# Altium integrated library nrf24l01-breakout.IntLib: 2 symbols
Pins are listed as number, name and electrical type; pins without a type are passive.

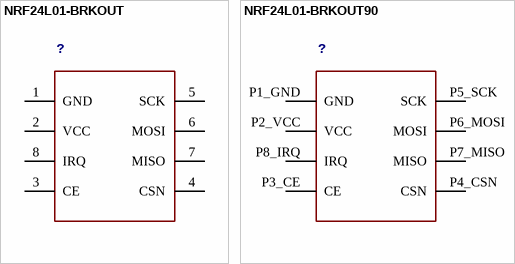
[diagram p0: symbols NRF24L01-BRKOUT to NRF24L01-BRKOUT90]

## NRF24L01-BRKOUT
designator ?
footprint NRF24L01-BKKOUT
pins: 1 GND, 2 VCC, 3 CE, 4 CSN, 5 SCK, 6 MOSI, 7 MISO, 8 IRQ

## NRF24L01-BRKOUT90
designator ?
footprint NRF24L01-BRKOUT90
pins: P1_GND GND, P2_VCC VCC, P3_CE CE, P4_CSN CSN, P5_SCK SCK, P6_MOSI MOSI, P7_MISO MISO, P8_IRQ IRQ